# EAGLE library part INA213 (library nonolith)
INA21x in SOT23
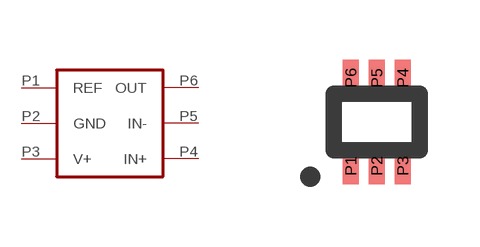
[diagram p32: symbol with the pads of SC-70; footprint SC-70]

Designator prefix -

## INA213  [SC-70]
P1  REF
P2  GND
P3  V+
P4  IN+
P5  IN-
P6  OUT

## Footprint SC-70 (pad centres in mm)
tiny sot23
smd 0.4 x 0.9: P1 -0.65,-1.1; P2 0,-1.1; P3 0.65,-1.1; P4 0.65,1.1; P5 0,1.1; P6 -0.65,1.1